# EAGLE library part PTA2043-2015CPB103 (library PTA2043-2015CPB103)
10 kOhms 0.1W, 1/10W Through Hole Slide Potentiometer Top Adjustment Type Source: Datasheet <https://www.bourns.com/docs/Product-Datasheets/pta.pdf>
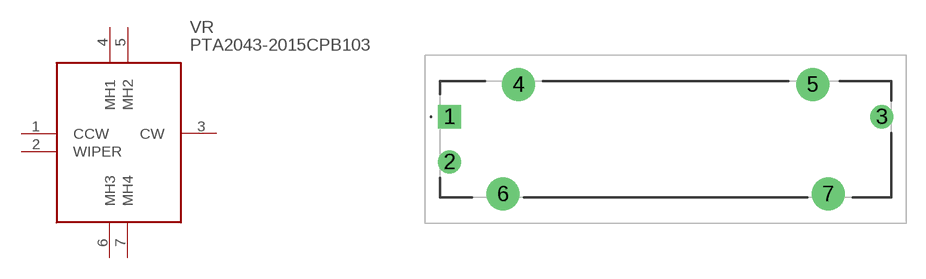
[diagram p0: symbol with the pads of PTA20432015CPB103; footprint PTA20432015CPB103]

Designator prefix VR

## PTA2043-2015CPB103 (Description: 10 kOhms 0.1W, 1/10W Through Hole Slide Potentiometer Top Adjustment Type; Height: 16.9mm; Manufacturer_Name: Bourns; Manufacturer_Part_Number: PTA2043-2015CPB103; Mouser_Part_Number: 652-PTA20432015CPB10; Mouser_Price-Stock: https://www.mouser.co.uk/ProductDetail/Bourns/PTA2043-2015CPB103?qs=U%2FacTlguYxYK7NNmAJCU3g%3D%3D)  [PTA20432015CPB103]
1  CCW
2  WIPER
3  CW
4  MH1
5  MH2
6  MH3
7  MH4

## Footprint PTA20432015CPB103 (pad centres in mm)
PTA2043-2015CPB103-3
drill 1.2 pad 1.8 square: 1 0,0
drill 1.2 pad 1.8: 2 0,-3.5; 3 33.5,0
drill 1.7 pad 2.55: 4 5.35,2.5; 5 28.15,2.5; 6 4.15,-6; 7 29.35,-6